# Altium schematic symbol library BCM.SchLib: 37 symbols
Pins are listed as number, name and electrical type; pins without a type are passive.

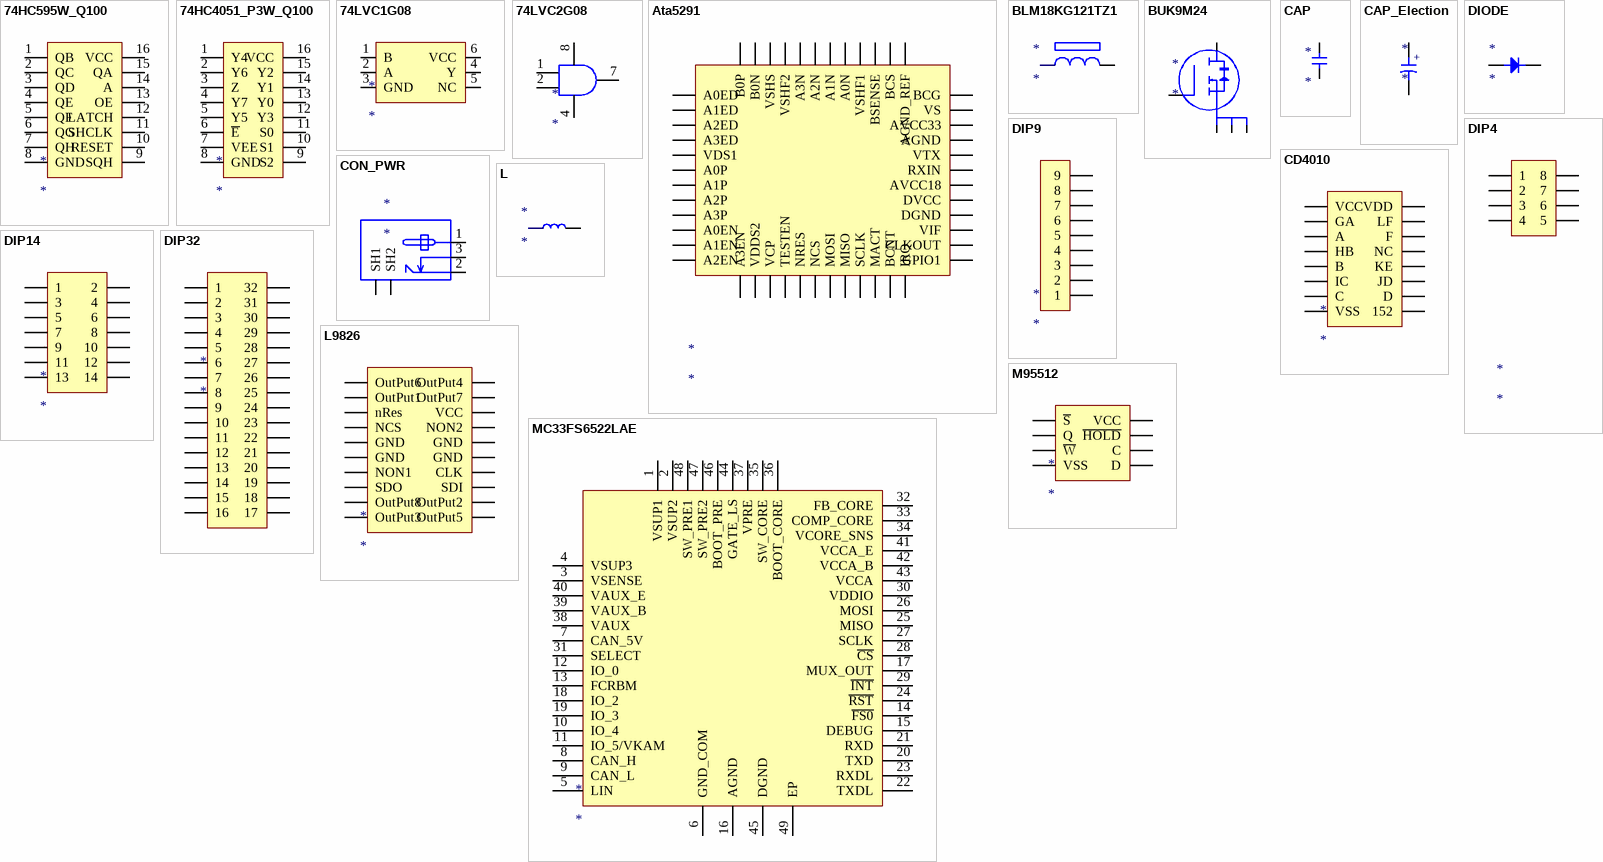
[diagram p0: symbols 74HC595W_Q100 to MC33FS6522LAE]

## 74HC595W_Q100
designator *
pins: 1 QB, 2 QC, 3 QD, 4 QE, 5 QF, 6 QG, 7 QH, 8 GND, 9 SQH, 10 RESET, 11 SHCLK, 12 LATCH, 13 OE, 14 A, 15 QA, 16 VCC

## 74HC4051_P3W_Q100
designator *
pins: 1 Y4, 2 Y6, 3 Z, 4 Y7, 5 Y5, 6 ~{E}, 7 VEE, 8 GND, 9 S2, 10 S1, 11 S0, 12 Y3, 13 Y0, 14 Y1, 15 Y2, 16 VCC

## 74LVC1G08
designator *
pins: 1 B, 2 A, 3 GND, 4 Y, 5 NC, 6 VCC

## 74LVC2G08
designator *
pins: 1 A, 2 B, 4, 7 Y, 8 4

## Ata5291
designator *
pins: 175 A0ED, 176 A1ED, 177 A2ED, 178 A3ED, 179 VDS1, 180 A0P, 181 A1P, 182 A2P, 183 A3P, 184 A0EN, 185 A1EN, 186 A2EN, 187 A3EN, 187 GPIO1, 187 AGND_REF, 188 VDDS2, 188 CLKOUT, 188 BCS, 189 VCP, 189 VIF, 189 BSENSE, 190 TESTEN, 190 DGND, 190 VSHF1, 191 NRES, 191 DVCC, 191 A0N, 192 NCS, 192 AVCC18, 192 A1N, 193 MOSI, 193 RXIN, 193 A2N, 194 MISO, 194 VTX, 194 A3N, 195 SCLK, 195 AGND, 195 VSHF2, 196 MACT, 196 AVCC33, 196 VSHS, 197 BCNT, 197 VS, 197 B0N, 198 IRQ, 198 BCG, 198 B0P

## BLM18KG121TZ1
designator *
pins: 1, 2

## BUK9M24
designator *
pins: 1, 2, 3, 5 4, 5

## CAP
designator *
pins: 1, 2

## CAP_Election
designator *
pins: 1, 2
text: +

## CD4010
designator *
pins: 137 VCC, 138 GA, 139 A, 140 HB, 141 B, 142 IC, 143 C, 144 VSS, 145 VDD, 146 LF, 147 F, 148 NC, 149 KE, 150 JD, 151 D, 152

## CON_PWR
designator *
pins: 1, 2, 3, 5 SH1, ?1 SH2

## DIODE
designator *
pins: 1 A, 2 K

## DIP4
designator *
pins: 1, 2, 3, 4, 5, 6, 7, 8

## DIP9
designator *
pins: 1, 2, 3, 4, 5, 6, 7, 8, 9

## DIP14
designator *
pins: 1, 2, 3, 4, 5, 6, 7, 8, 9, 10, 11, 12, 13, 14

## DIP32
designator *
pins: 1, 2, 3, 4, 5, 6, 7, 8, 9, 10, 11, 12, 13, 14, 15, 16, 17, 18, 19, 20, 21, 22, 23, 24, 25, 26, 27, 28, 29, 30, 31, 32

## L
designator *
pins: 1, 2

## L9826
designator *
pins: 107 OutPut6, 107 OutPut5, 108 OutPut1, 108 OutPut2, 109 nRes, 109 SDI, 110 NCS, 110 CLK, 111 GND, 111 GND, 112 GND, 112 GND, 113 NON1, 113 NON2, 114 SDO, 114 VCC, 115 OutPut8, 115 OutPut7, 116 OutPut3, 116 OutPut4

## M95512
designator *
pins: 117 ~{S}, 118 Q, 119 ~{W}, 120 VSS, 121 VCC, 122 ~{HOLD}, 123 C, 124 D

## MC33FS6522LAE
designator *
pins: 1 VSUP1, 2 VSUP2, 3 VSENSE, 4 VSUP3, 5 LIN, 6 GND_COM, 7 CAN_5V, 8 CAN_H, 9 CAN_L, 10 IO_4, 11 IO_5/VKAM, 12 IO_0, 13 FCRBM, 14 ~{FS0}, 15 DEBUG, 16 AGND, 17 MUX_OUT, 18 IO_2, 19 IO_3, 20 TXD, 21 RXD, 22 TXDL, 23 RXDL, 24 ~{RST}, 25 MISO, 26 MOSI, 27 SCLK, 28 ~{CS}, 29 ~{INT}, 30 VDDIO, 31 SELECT, 32 FB_CORE, 33 COMP_CORE, 34 VCORE_SNS, 35 SW_CORE, 36 BOOT_CORE, 37 VPRE, 38 VAUX, 39 VAUX_B, 40 VAUX_E, 41 VCCA_E, 42 VCCA_B, 43 VCCA, 44 GATE_LS, 45 DGND, 46 BOOT_PRE, 47 SW_PRE2, 48 SW_PRE1, 49 EP

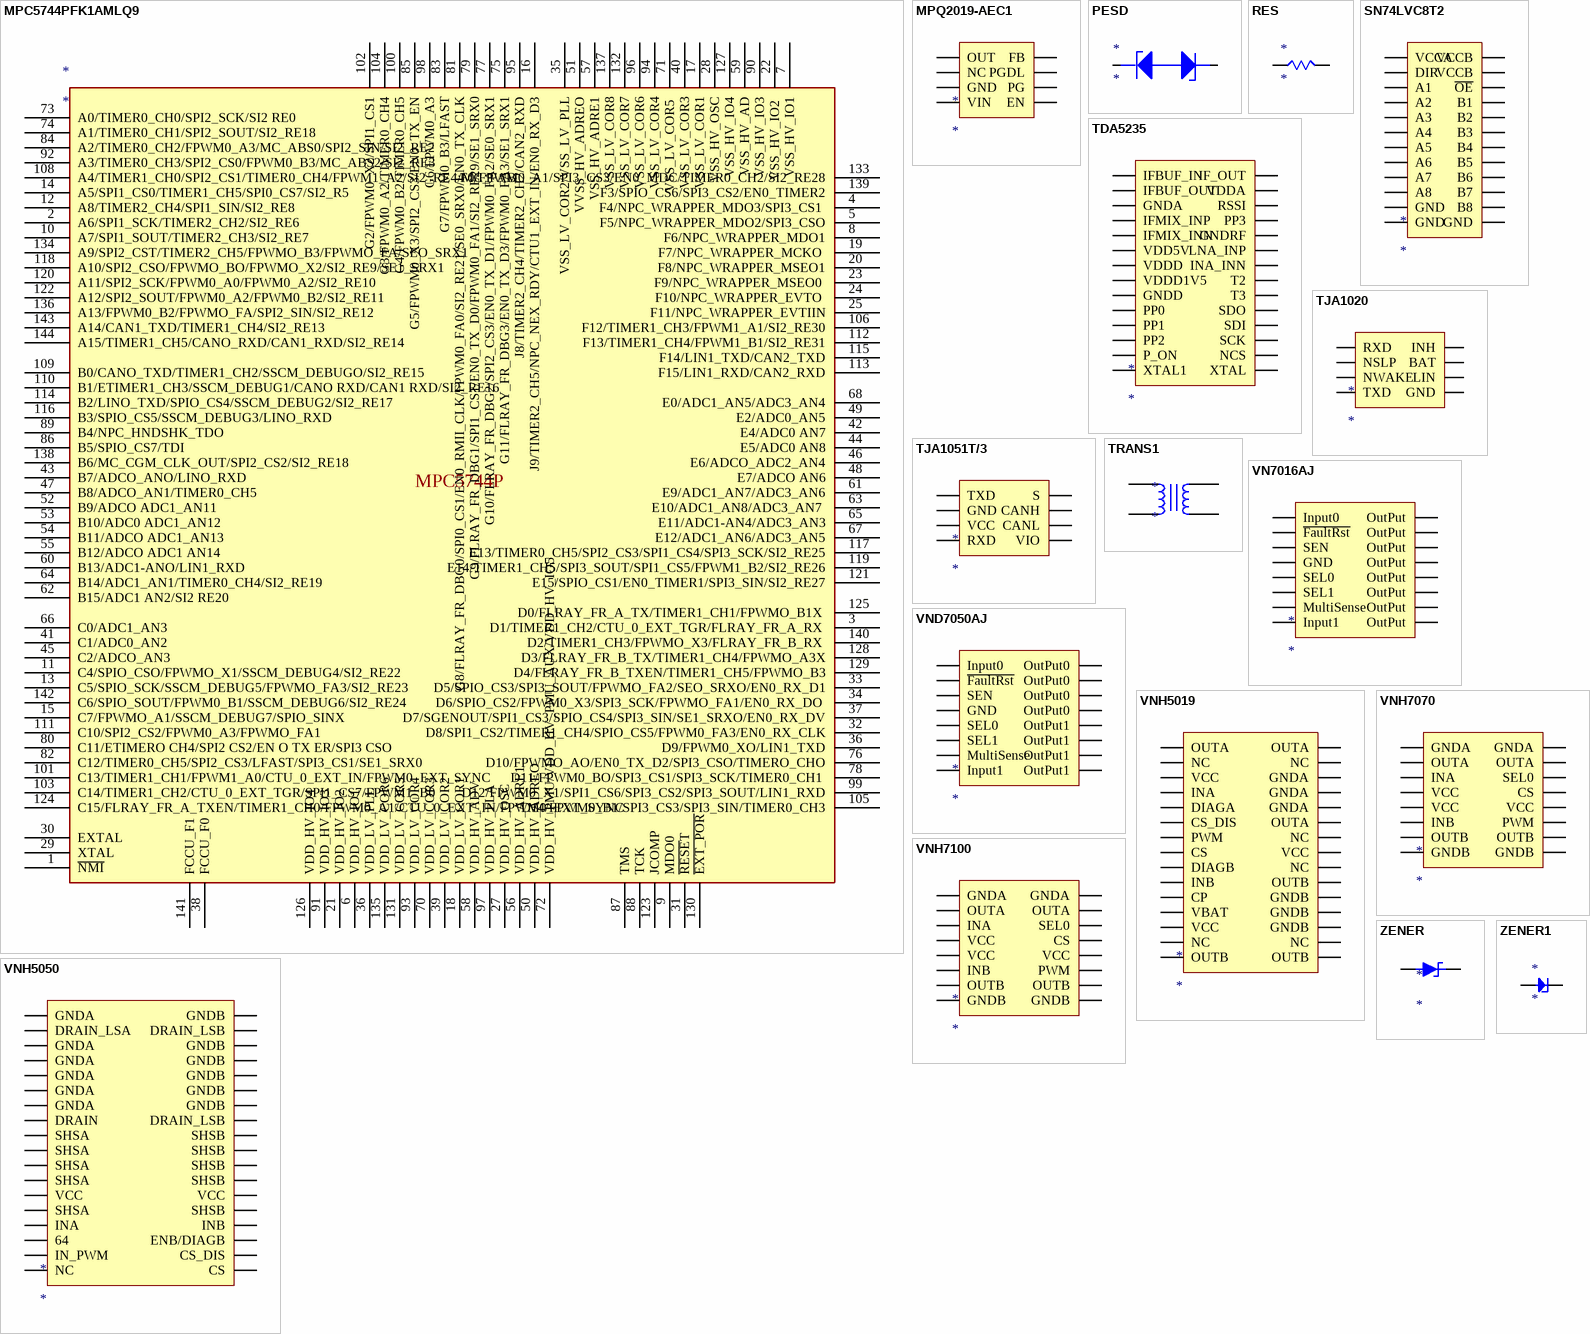
[diagram p1: symbols MPC5744PFK1AMLQ9 to ZENER1]

## MPC5744PFK1AMLQ9
designator *
pins: 1 ~{NMI}, 2 A6/SPI1_SCK/TIMER2_CH2/SI2_RE6, 3 D1/TIMER1_CH2/CTU_0_EXT_TGR/FLRAY_FR_A_RX , 4 F4/NPC_WRAPPER_MDO3/SPI3_CS1 , 5 F5/NPC_WRAPPER_MDO2/SPI3_CSO, 6 VDD_HV_IO1 , 7 VSS_HV_IO1, 8 F6/NPC_WRAPPER_MDO1, 9 MDO0, 10 A7/SPI1_SOUT/TIMER2_CH3/SI2_RE7, 11 C4/SPIO_CSO/FPWMO_X1/SSCM_DEBUG4/SI2_RE22 , 12 A8/TIMER2_CH4/SPI1_SIN/SI2_RE8, 13 C5/SPIO_SCK/SSCM_DEBUG5/FPWMO_FA3/SI2_RE23, 14 A5/SPI1_CS0/TIMER1_CH5/SPI0_CS7/SI2_R5, 15 C7/FPWMO_A1/SSCM_DEBUG7/SPIO_SINX, 16 J9/TIMER2_CH5/NPC_NEX_RDY/CTU1_EXT_IN/EN0_RX_D3, 17 VSS_LV_COR1, 18 VDD_LV_COR1 , 19 F7/NPC_WRAPPER_MCKO , 20 F8/NPC_WRAPPER_MSEO1, 21 VDD_HV_IO2 , 22 VSS_HV_IO2 , 23 F9/NPC_WRAPPER_MSEO0 , 24 F10/NPC_WRAPPER_EVTO , 25 F11/NPC_WRAPPER_EVTIIN, 27 VDD_HV_OSC, 28 VSS_HV_OSC, 29 XTAL, 30 EXTAL, 31 ~{RESE}T, 32 D8/SPI1_CS2/TIMER1_CH4/SPIO_CS5/FPWM0_FA3/EN0_RX_CLK, 33 D5/SPIO_CS3/SPI3_SOUT/FPWMO_FA2/SEO_SRXO/EN0_RX_D1, 34 D6/SPIO_CS2/FPWM0_X3/SPI3_SCK/FPWMO_FA1/EN0_RX_DO , 35 VSS_LV_COR2/VSS_LV_PLL, 36 D9/FPWM0_XO/LIN1_TXD, 36 VDD_LV_PLL, 37 D7/SGENOUT/SPI1_CS3/SPIO_CS4/SPI3_SIN/SE1_SRXO/EN0_RX_DV, 38 FCCU_F0, 39 VDD_LV_COR2 , 40 VSS_LV_COR3, 41 C1/ADC0_AN2, 42 E4/ADC0 AN7, 43 B7/ADCO_ANO/LINO_RXD, 44 E5/ADC0 AN8, 45 C2/ADCO_AN3, 46 E6/ADCO_ADC2_AN4, 47 B8/ADCO_AN1/TIMER0_CH5, 48 E7/ADCO AN6, 49 E2/ADC0_AN5, 50 VDD_HV_ADREO, 51 VVSS_HV_ADREO, 52 B9/ADCO ADC1_AN11, 53 B10/ADC0 ADC1_AN12, 54 B11/ADCO ADC1_AN13, 55 B12/ADCO ADC1 AN14, 56 VDD_HV_ADRE1, 57 VSS_HV_ADRE1, 58 VDD_HV_ADV, 59 VSS_HV_AD, 60 B13/ADC1-ANO/LIN1_RXD, 61 E9/ADC1_AN7/ADC3_AN6, 62 B15/ADC1 AN2/SI2 RE20, 63 E10/ADC1_AN8/ADC3_AN7 , 64 B14/ADC1_AN1/TIMER0_CH4/SI2_RE19, 65 E11/ADC1-AN4/ADC3_AN3, 66 C0/ADC1_AN3, 67 E12/ADC1_AN6/ADC3_AN5, 68 E0/ADC1_AN5/ADC3_AN4, 70 VDD_LV_COR3 , 71 VSS_LV_COR5 , 72 VDD_HV_PMU/VDD_HV_PMU_AUX/VDD_HV_IO5, 73 A0/TIMER0_CH0/SPI2_SCK/SI2 RE0, 74 A1/TIMER0_CH1/SPI2_SOUT/SI2_RE18, 75 G11/FLRAY_FR_DBG3/EN0_TX_D3/FPWM0_FA3/SE1_SRX1, 76 D10/FPWMO_AO/EN0_TX_D2/SPI3_CSO/TIMERO_CHO, 77 G10/FLRAY_FR_DBG2/SPI2_CS3/EN0_TX_D1/FPWM0_FA2/SE0_SRX1, 78 D11/FPWM0_BO/SPI3_CS1/SPI3_SCK/TIMER0_CH1 , 79 G9/FLRAY_FR_DBG1/SPI1_CS1/EN0_TX_D0/FPWM0_FA1/SI2_RE29/SE1_SRX0, 80 C11/ETIMERO CH4/SPI2 CS2/EN O TX ER/SPI3 CSO, 81 G8/FLRAY_FR_DBG0/SPI0_CS1/EN0_RMII_CLK/FPWM0_FA0/SI2_RE21/SE0_SRX0/EN0_TX_CLK, 82 C12/TIMER0_CH5/SPI2_CS3/LFAST/SPI3_CS1/SE1_SRX0, 83 G7/FPWM0_B3/LFAST, 84 A2/TIMER0_CH2/FPWM0_A3/MC_ABS0/SPI2_SIN/SI2_RE2, 85 G5/FPWM0_X3/SPI2_CS3/EN0_TX_EN, 86 B5/SPIO_CS7/TDI, 87 TMS, 88 TCK, 89 B4/NPC_HNDSHK_TDO, 90 VSS_HV_IO3, 91 VDD_HV_IO3 , 92 A3/TIMER0_CH3/SPI2_CS0/FPWM0_B3/MC_ABS2/SI2_RE3, 93 VDD_LV_COR4 , 94 VSS_LV_COR4, 95 J8/TIMER2_CH4/TIMER2_CH2/CAN2_RXD, 96 VSS_LV_COR6, 97 VDD_HV_FLA, 98 G6/FPWM0_A3, 99 D12/FPWM0_X1/SPI1_CS6/SPI3_CS2/SPI3_SOUT/LIN1_RXD, 100 G4/FPWM0_B2/TIMER0_CH5, 101 C13/TIMER1_CH1/FPWM1_A0/CTU_0_EXT_IN/FPWM0_EXT_SYNC, 102 G2/FPWM0_X2/SPI1_CS1, 103 C14/TIMER1_CH2/CTU_0_EXT_TGR/SPI1_CS7/FPWM1_B0, 104 G3/FPWM0_A2/TIMER0_CH4, 105 D14/FPWM0_B1/SPI3_CS3/SPI3_SIN/TIMER0_CH3, 106 F12/TIMER1_CH3/FPWM1_A1/SI2_RE30, 108 A4/TIMER1_CH0/SPI2_CS1/TIMER0_CH4/FPWM1_A2/SI2_RE4/MC_FAB , 109 B0/CANO_TXD/TIMER1_CH2/SSCM_DEBUGO/SI2_RE15, 110 B1/ETIMER1_CH3/SSCM_DEBUG1/CANO RXD/CAN1 RXD/SI2_RE16, 111 C10/SPI2_CS2/FPWM0_A3/FPWMO_FA1, 112 F13/TIMER1_CH4/FPWM1_B1/SI2_RE31, 113 F15/LIN1_RXD/CAN2_RXD, 114 B2/LINO_TXD/SPIO_CS4/SSCM_DEBUG2/SI2_RE17, 115 F14/LIN1_TXD/CAN2_TXD, 116 B3/SPIO_CS5/SSCM_DEBUG3/LINO_RXD, 117 E13/TIMER0_CH5/SPI2_CS3/SPI1_CS4/SPI3_SCK/SI2_RE25, 118 A10/SPI2_CSO/FPWMO_BO/FPWMO_X2/SI2_RE9/SE1_SRX1, 119 E14/TIMER1_CH5/SPI3_SOUT/SPI1_CS5/FPWM1_B2/SI2_RE26, 120 A11/SPI2_SCK/FPWM0_A0/FPWM0_A2/SI2_RE10, 121 E15/SPIO_CS1/EN0_TIMER1/SPI3_SIN/SI2_RE27, 122 A12/SPI2_SOUT/FPWM0_A2/FPWM0_B2/SI2_RE11, 123 JCOMP, 124 C15/FLRAY_FR_A_TXEN/TIMER1_CH0/FPWM0_A1/CTU_0_EXT_IN/FPWM0_EXT_SYNC, 125 D0/FLRAY_FR_A_TX/TIMER1_CH1/FPWMO_B1X , 126 VDD_HV_IO4, 127 VSS_HV_IO4, 128 D3/FLRAY_FR_B_TX/TIMER1_CH4/FPWMO_A3X, 129 D4/FLRAY_FR_B_TXEN/TIMER1_CH5/FPWMO_B3, 130 ~{EXT_POR}, 131 VDD_LV_COR5, 132 VSS_LV_COR7, 133 F0/FPWM0_A1/SPI3_CS3/EN0_MDC/TIMER0_CH2/SI2_RE28, 134 A9/SPI2_CST/TIMER2_CH5/FPWMO_B3/FPWMO_FA/SEO_SRX1 , 135 VDD_LV_COR6, 136 A13/FPWM0_B2/FPWMO_FA/SPI2_SIN/SI2_RE12, 137 VSS_LV_COR8, 138 B6/MC_CGM_CLK_OUT/SPI2_CS2/SI2_RE18, 139 F3/SPIO_CS6/SPI3_CS2/EN0_TIMER2, 140 D2/TIMER1_CH3/FPWMO_X3/FLRAY_FR_B_RX , 141 FCCU_F1, 142 C6/SPIO_SOUT/FPWM0_B1/SSCM_DEBUG6/SI2_RE24, 143 A14/CAN1_TXD/TIMER1_CH4/SI2_RE13, 144 A15/TIMER1_CH5/CANO_RXD/CAN1_RXD/SI2_RE14
text: MPC5744P

## MPQ2019-AEC1
designator *
pins: 153 OUT, 154 NC, 155 GND, 156 VIN, 157 FB, 158 PGDL, 159 PG, 160 EN

## PESD
designator *
pins: 6, 7

## RES
designator *
pins: 1, 2

## SN74LVC8T2
designator *
pins: 2 DIR, ?1 A1, VCCA, VCCA A2, VCCA A3, VCCA A4, VCCA A5, VCCA A6, VCCA A7, VCCA A8, VCCA GND, VCCA GND, VCCA GND, VCCA B8, VCCA B7, VCCA B6, VCCA B5, VCCA B4, VCCA B3, VCCA B2, VCCA B1, VCCA ~{OE}, VCCA VCCB, VCCA VCCB

## TDA5235
designator *
pins: 161 IFBUF_IN, 161 XTAL, 162 IFBUF_OUT, 162 NCS, 163 GNDA, 163 SCK, 164 IFMIX_INP, 164 SDI, 165 IFMIX_INN, 165 SDO, 166 VDD5V, 166 T3, 167 VDDD, 167 T2, 168 VDDD1V5, 168 INA_INN, 169 GNDD, 169 LNA_INP, 170 PP0, 170 GNDRF, 171 PP1, 171 PP3, 172 PP2, 172 RSSI, 173 P_ON, 173 VDDA, 174 XTAL1, 174 IF_OUT

## TJA1020
designator *
pins: 125 RXD, 125 GND, 126 NSLP, 126 LIN, 127 NWAKE, 127 BAT, 128 TXD, 128 INH

## TJA1051T/3
designator *
pins: 129 TXD, 130 GND, 131 VCC, 132 RXD, 133 S, 134 CANH, 135 CANL, 136 VIO

## TRANS1
designator *
pins: 1, 1, 3, 3

## VN7016AJ
designator *
pins: 83 Input0, 84 ~{FaultRst}, 85 SEN, 86 GND, 87 SEL0, 88 SEL1, 89 MultiSense, 90 Input1, 99 OutPut, 100 OutPut, 101 OutPut, 102 OutPut, 103 OutPut, 104 OutPut, 105 OutPut, 106 OutPut

## VND7050AJ
designator *
pins: 83 Input0, 84 ~{FaultRst}, 85 SEN, 86 GND, 87 SEL0, 88 SEL1, 89 MultiSense, 90 Input1, 91 OutPut0, 92 OutPut0, 93 OutPut0, 94 OutPut0, 95 OutPut1, 96 OutPut1, 97 OutPut1, 98 OutPut1

## VNH5019
designator *
pins: 43 OUTA, 43 OUTB, 44 NC, 44 NC, 45 VCC, 45 GNDB, 46 INA, 46 GNDB, 47 DIAGA, 47 GNDB, 48 CS_DIS, 48 OUTB, 49 PWM, 49 NC, 50 CS, 50 VCC, 51 DIAGB, 51 NC, 52 INB, 52 OUTA, 53 CP, 53 GNDA, 54 VBAT, 54 GNDA, 55 VCC, 55 GNDA, 56 NC, 56 NC, 57 OUTB, 57 OUTA

## VNH5050
designator *
pins: 58 GNDA, 58 SHSA, 58 CS, 58 SHSB, 59 DRAIN_LSA, 59 SHSA, 59 CS_DIS, 59 DRAIN_LSB, 60 GNDA, 60 SHSA, 60 ENB/DIAGB, 60 GNDB, 61 GNDA, 61 VCC, 61 INB, 61 GNDB, 62 GNDA, 62 SHSA, 62 SHSB, 62 GNDB, 63 GNDA, 63 INA, 63 VCC, 63 GNDB, 64 GNDA, 64, 64 SHSB, 64 GNDB, 65 DRAIN, 65 IN_PWM, 65 SHSB, 65 DRAIN_LSB, 66 SHSA, 66 NC, 66 SHSB, 66 GNDB

## VNH7070
designator *
pins: 67 GNDA, 68 INA, 69 OUTA, 70 VCC, 71 VCC, 72 INB, 73 OUTB, 74 GNDB, 75 GNDA, 76 OUTA, 77 SEL0, 78 CS, 79 VCC, 80 PWM, 81 OUTB, 82 GNDB

## VNH7100
designator *
pins: 30 GNDA, 30 GNDA, 31 OUTA, 31 OUTA, 31 SEL0, 32 INA, 33 VCC, 34 VCC, 35 INB, 36 OUTB, 37 GNDB, 38 CS, 39 VCC, 40 PWM, 41 OUTB, 42 GNDB

## ZENER
designator *
pins: 1 A, 2 K

## ZENER1
designator *
pins: 1 A, 2 K